# Altium schematic symbol library VBlib_Transistors.SchLib: 4 symbols
Pins are listed as number, name and electrical type; pins without a type are passive.

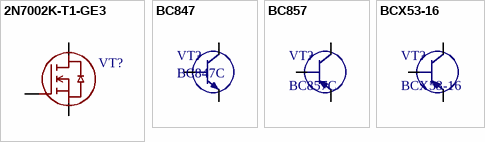
[diagram p0: symbols 2N7002K-T1-GE3 to BCX53-16]

## 2N7002K-T1-GE3
designator VT?  (value not drawn)
HEXFET Power MOSFET N-CH
footprint SOT-23-3 (SOT-23; 3 Leads; Body 3.0 x 2.6 mm, inc. leads (LxW max))
pins: 1 G, 2 S, 3 D

## BC847
designator VT?, comment BC847C
NPN Transistor 45V, 0.1A, SOT-23
footprint SOT-23-3 (SOT-23; 3 Leads; Body 3.0 x 2.6 mm, inc. leads (LxW max))
pins: 1, 2, 3

## BC857
designator VT?, comment BC857C
PNP Transistor 45V, 0.1A, SOT-23
footprint SOT-23-3 (SOT-23; 3 Leads; Body 3.0 x 2.6 mm, inc. leads (LxW max))
pins: 1, 2, 3

## BCX53-16
designator VT?
PNP Transistor 80V, 1A, SOT-89
footprint SOT89M (SOT89, 3-Leads, Body 4.5x2.4 mm, Pitch 1.5mm, Lead Span 4.1mm, IPC Low Density)
pins: 1, 2, 3